# Altium integrated library RC-XD(TX).IntLib: 26 symbols
Pins are listed as number, name and electrical type; pins without a type are passive.

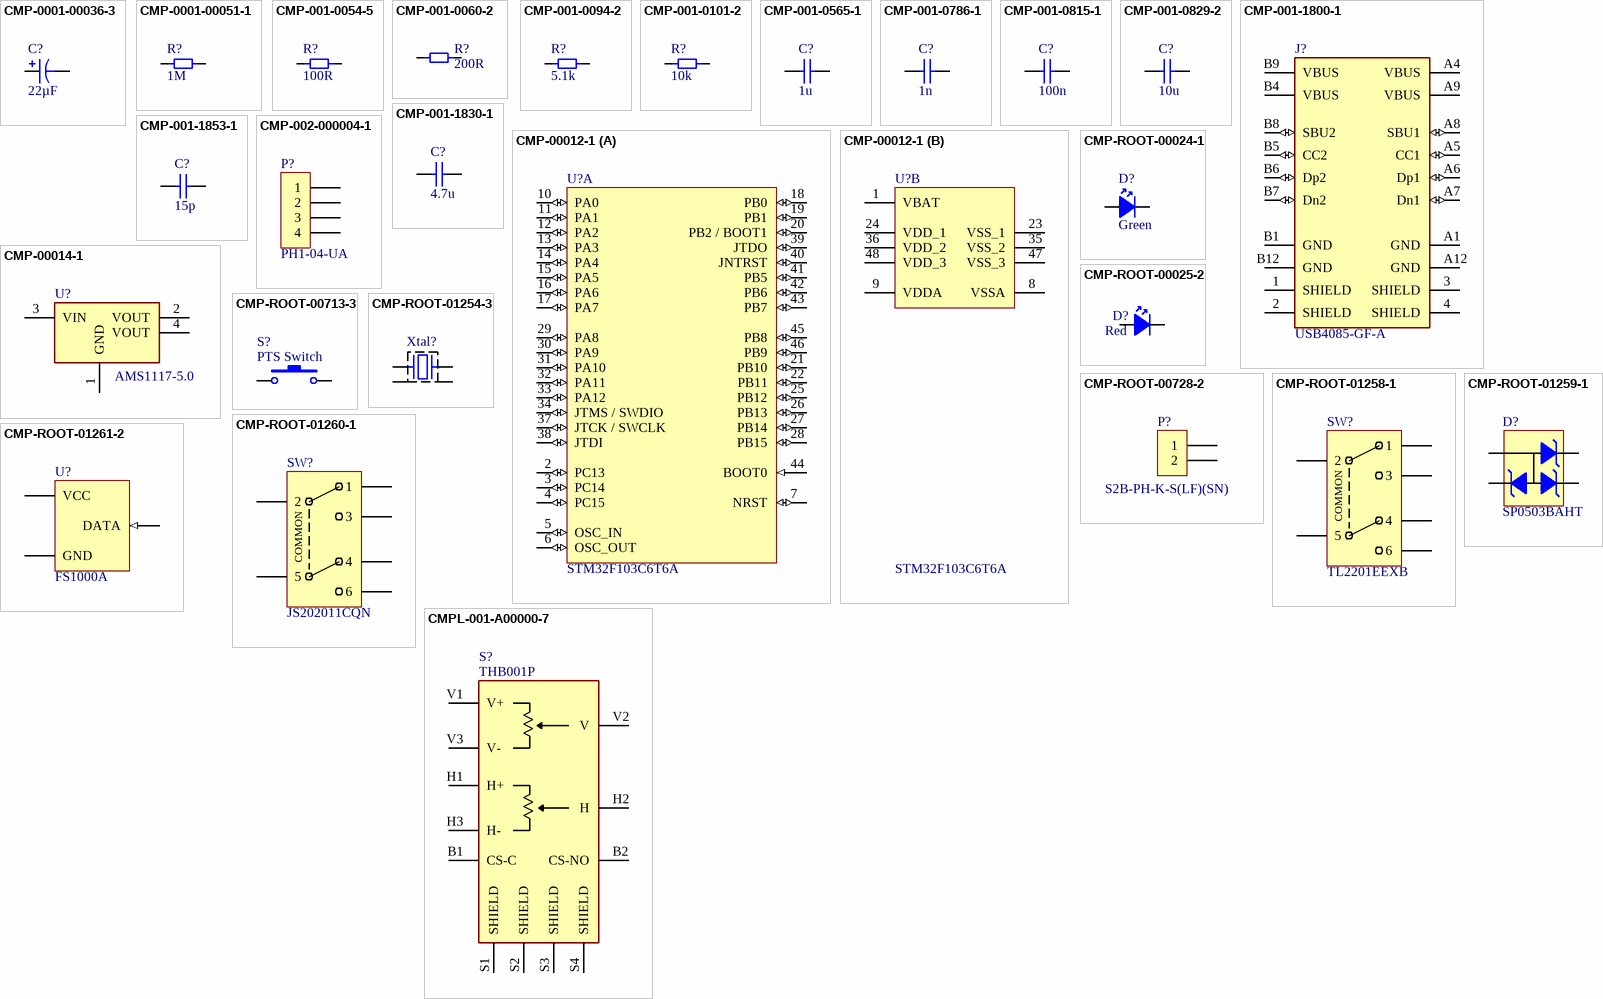
[diagram p0: symbols CMP-0001-00036-3 to CMPL-001-A00000-7]

## CMP-0001-00036-3
designator C?, comment value 22µF  (hidden comment: TCJB226M025R0150)
Cap Tant Solid 22uF 25V B CASE 20% (3.5 X 2.8 X 1.9mm) SMD 3528-21 0.15 Ohm 105°C T/R; Manufacturer: AVX Corporation; Life (Hours): 2000Hour; Capacitor Type: Molded; Dielectric: X5R; ESR (Equivalent Series Resistance): 150mR; Tolerance: 20%; Capacitance: 22uF; Features: General Purpose; Mount: Surface Mount; Package Quantity: 2000; Radiation Hardening: No; Termination: SMD/SMT; Length: 0.138inch; Height: 1.9mm; Height - Seated (Max): 0.083inch; Depth: 2.8mm; Voltage Rating: 25V; Part number: TCJB226M025R0150; Case Code (Imperial): 1210; Width: 0.11inch; Packaging: Tape and Reel; Max Operating Temperature: 105°C; Voltage Rating (DC): 25V; Min Operating Temperature: -55°C; Case Code (Metric): 3528; REACH SVHC: No SVHC; RoHS: Yes; Case/Package: 1210; Component Type: Capacitor
footprint 1210_Tantalum (Chip Capacitor, 2-Leads, Body 3,20x2,50mm, IPC Medium Density)
pins: 1, 2

## CMP-0001-00051-1
designator R?, comment 1M
Resistor, 1206, 1M, 1%, 1/4W; Manufacturer: Any; Case/Package: 1206; RoHS: Yes; Value: 1M; Mount: SMD; Part number: Any; Component Type: Resistor
footprint Resistor_1206_M
pins: 1, 2

## CMP-001-0054-5
designator R?, comment 100R
Resistor, 0603, 100R, 1%, 1/10W; Manufacturer: Any; Value: 100; Power: 100mW; Case/Package: 0603; Mount: SMD; Part number: Resistor, 0603, 100R, 1%, 1/10W; Tolerance: 1%; RoHS: Yes; Component Type: Resistor
footprint Resistor_0603_M
pins: 1, 2

## CMP-001-0060-2
designator R?, comment 200R
Resistor, 0603, 200R, 1%, 1/10W; Manufacturer: Any; Value: 200; Power: 100mW; RoHS: Yes; Part number: Resistor, 0603, 200R, 1%, 1/10W; Mount: SMD; Tolerance: 1%; Case/Package: 0603; Component Type: Resistor
footprint Resistor_0603_M
pins: 1, 2

## CMP-001-0094-2
designator R?, comment 5.1k
Resistor, 0603, 5.1k, 1%, 1/10W; Manufacturer: Any; Power: 100mW; Value: 5,1k; Case/Package: 0603; Part number: Resistor, 0603, 5.1k, 1%, 1/10W; Mount: SMD; Tolerance: 1%; RoHS: Yes; Component Type: Resistor
footprint Resistor_0603_M
pins: 1, 2

## CMP-001-0101-2
designator R?, comment 10k
Resistor, 0603, 10k, 1%, 1/10W; Manufacturer: Any; Power: 100mW; Tolerance: 1%; Value: 10k; RoHS: Yes; Mount: SMD; Case/Package: 0603; Part number: Resistor, 0603, 10k, 1%, 1/10W; Component Type: Resistor
footprint Resistor_0603_M
pins: 1, 2

## CMP-001-0565-1
designator C?, comment 1u
MLCC, 0603, 1u, 10%, 50V, X5R; Manufacturer: Any; Capacitor Type: Ceramic; Value: 1µF; Part number: MLCC, 0603, 1u, 10%, 50V, X5R; Dielectric: X5R; Voltage: 50V; RoHS: Yes; Tolerance: 10%; Mount: SMD; Case/Package: 0603; Component Type: Capacitor
footprint MLCC_0603_M
pins: 1, 2

## CMP-001-0786-1
designator C?, comment 1n
MLCC, 0603, 1n, 10%, 50V, X7R; Manufacturer: Any; Value: 1nF; Capacitor Type: Ceramic; RoHS: Yes; Mount: SMD; Dielectric: X7R; Case/Package: 0603; Part number: MLCC, 0603, 1n, 10%, 50V, X7R; Voltage: 50V; Tolerance: 10%; Component Type: Capacitor
footprint MLCC_0603_M
pins: 1, 2

## CMP-001-0815-1
designator C?, comment 100n
MLCC, 0603, 100n, 10%, 50V, X7R; Manufacturer: Any; Value: 100nF; Capacitor Type: Ceramic; Part number: MLCC, 0603, 100n, 10%, 50V, X7R; RoHS: Yes; Dielectric: X7R; Mount: SMD; Voltage: 50V; Tolerance: 10%; Case/Package: 0603; Component Type: Capacitor
footprint MLCC_0603_M
pins: 1, 2

## CMP-001-0829-2
designator C?, comment 10u
MLCC, 0805, 10u, 10%, 50V, X5R; Manufacturer: Any; Value: 10µF; Capacitor Type: Ceramic; RoHS: Yes; Tolerance: 10%; Voltage: 50V; Mount: SMD; Case/Package: 0805; Part number: MLCC, 0805, 10u, 10%, 50V, X5R; Dielectric: X5R; Component Type: Capacitor
footprint MLCC_0805_M (Chip Capacitor, 2-Leads, Body 2,00x1,25mm, IPC Medium Density)
pins: 1, 2

## CMP-001-1800-1
designator J?, comment USB4085-GF-A
USB Connector, 16 Contact(s), Female, Right Angle, Solder Terminal, Locking, Receptacle; Manufacturer: GCT; Part number: USB4800-03-A; USB Standard: USB 2.0; Standoff Height: 3.5mm; USB PD: 3.2; Current Rating: 4.25A; Mating Cycles: 10000; Number of Contacts: 16; Number of Ports: 1; Shielding: Shielded; Voltage Rating: 20V; RoHS: Yes; Pins: 16; Mount: TH; Connector Type: USB; Contact Material: Copper Alloy; Contact Plating: Gold; Flammability Rating: UL94 V-0; Gender: Receptacle; Height: 3.66mm; Insulation Color: Black; Max Operating Temperature: 85°C; Min Operating Temperature: -40°C; Mounting Technology: Through Hole,Horizontal; Number of Positions: 16; Orientation: Right Angle; Packaging: Tape and Reel; Series: USB4085; Termination: Solder; Component Type: Connector
footprint FP-USB4085-GF-A-MFG
pins: 1 SHIELD, 2 SHIELD, 3 SHIELD, 4 SHIELD, A1 GND (power), A4 VBUS (power), A5 CC1 (io), A6 Dp1 (io), A7 Dn1 (io), A8 SBU1 (io), A9 VBUS (power), A12 GND (power), B1 GND (power), B4 VBUS (power), B5 CC2 (io), B6 Dp2 (io), B7 Dn2 (io), B8 SBU2 (io), B9 VBUS (power), B12 GND (power)

## CMP-001-1830-1
designator C?, comment 4.7u
MLCC, 0805, 4.7u, 20%, 50V, X5R; Manufacturer: Any; Capacitor Type: Ceramic; Value: 4.7µF; Mount: SMD; Case/Package: 0805; Dielectric: X5R; RoHS: Yes; Part number: MLCC, 0805, 4.7u, 20%, 50V, X5R; Voltage: 50V; Tolerance: 20%; Component Type: Capacitor
footprint MLCC_0805_M (Chip Capacitor, 2-Leads, Body 2,00x1,25mm, IPC Medium Density)
pins: 1, 2

## CMP-001-1853-1
designator C?, comment 15p
MLCC, 0402, 15p, 10%, 25V, C0G/NP0; Manufacturer: Any; Capacitor Type: Ceramic; Voltage Rating: 25; Value: 15pF; Dielectric: C0G; Temperature Coefficient: 300ppm/°C; Height: 0.5mm; Width: 0.02inch; Contact Plating: Tin; Package Quantity: 1; Case/Package: 0402; Depth: 0.5mm; Material: Ceramic; Packaging: Tape and Reel; Radiation Hardening: No; Case Code (Imperial): 0402; Min Operating Temperature: -55°C; Mount: Surface Mount; RoHS: Yes; Length: 1mm; Thickness: 0.022inch; Part number: MLCC, 0402, 15p, 10%, 25V, C0G/NP0; Capacitance: 15pF; Tolerance: 10%; Case Code (Metric): 1005; Voltage: 25V; Max Operating Temperature: 125°C; Component Type: Capacitor
footprint MLCC_0402_M
pins: 1, 2

## CMP-002-000004-1
designator P?, comment PH1-04-UA
4 POS 2.54mm Vertical THT Header; Manufacturer: Adam Tech; Number of Positions: 4; Pins: 4; RoHS: Yes; Part number: PH1-04-UA; Mount: TH; Lead Free: Lead Free; Pitch: 2.54mm; Termination: Through Hole; Component Type: Connector
footprint 4Pos Pin Header Vertical
pins: 1, 2, 3, 4

## CMP-00012-1
designator U?, comment STM32F103C6T6A
MCU 32-bit STM32F ARM Cortex M3 RISC 32KB Flash 2.5V/3.3V 48-Pin LQFP Tray; Manufacturer: STMicroelectronics; Part number: STM32F103C8T6; Address Bus Width: 32b; Frequency: 72MHz; Interface: CAN, I2C, IrDA, LIN, SPI, UART, USART, USB; Clock Frequency: 16MHz; Max Power Dissipation: 363mW; Max Supply Current: 45mA; Max Supply Voltage: 3.6V; Min Supply Voltage: 2V; Nominal Supply Current: 1.55µA; Number of A/D Converters: 2; Number of ADC Channels: 10; Number of I/Os: 37; Number of I2C Channels: 1; Number of Timers/Counters: 3; Operating Supply Voltage: 3.3V; Oscillator Type: Internal; Peripherals: DMA, I2C, POR, PWM, Temp Sensor, WDT; RAM Size: 10kB; Watchdog Timer: Yes; Case/Package: LQFP; China RoHS: Compliant; Core Architecture: ARM; Data Bus Width: 32b; Flash Memory Size: 32kB; Height: 1.45mm; Lead Free: Lead Free; Length: 7mm; Lifecycle Status: Production; Max Operating Temperature: 85°C; Memory Size: 32kB; Memory Format: FLASH; Min Operating Temperature: -40°C; Number of Channels: 10; Pins: 48; Number of Programmable I/O: 37; Number of SPI Channels: 1; Number of Terminals: 48; Number of USART Channels: 2; REACH SVHC: Yes; Radiation Hardening: No; RoHS: Compliant; Schedule B: 8542310000; Terminal Pitch: 500µm; Width: 7mm; Mount: SMD; Component Type: Processor
footprint STM-LQFP48_M (QFP, 48-Leads, Body 7x7mm, Pitch 0.5mm, IPC Low Density)
part A pins: 2 PC13 (io) "PC13-TAMPER-RTC/PC13/TAMPER-RTC", 3 PC14 (io) "PC14-OSC32_IN/PC14/OSC32_IN", 4 PC15 (io) "PC15-OSC32_OUT/PC15/OSC32_OUT", 5 OSC_IN (io) "PD0/OSC_IN", 6 OSC_OUT (io) "PD1/OSC_OUT", 7 NRST (io), 10 PA0 (io) "PA0-WKUP/PA0/WKUP/USART2_CTS/ADC12_IN0/TIM2_CH1_ETR", 11 PA1 (io) "PA1/USART2_RTS/ADC12_IN1/TIM2_CH2", 12 PA2 (io) "PA2/USART2_TX/ADC12_IN2/TIM2_CH3", 13 PA3 (io) "PA3/USART2_RX/ADC12_IN3/TIM2_CH4", 14 PA4 (io) "PA4/SPI1_NSS/USART2_CK/ADC12_IN4", 15 PA5 (io) "PA5/SPI1_SCK/ADC12_IN5", 16 PA6 (io) "PA6/SPI1_MISO/ADC12_IN6/TIM3_CH1/TIM1_BKIN", 17 PA7 (io) "PA7/SPI1_MOSI/ADC12_IN7/TIM3_CH2/TIM1_CH1N", 18 PB0 (io) "PB0/ADC12_IN8/TIM3_CH3/TIM1_CH2N", 19 PB1 (io) "PB1/ADC12_IN9/TIM3_CH4/TIM1_CH3N", 20 PB2 / BOOT1 (io) "PB2/BOOT1", 21 PB10 (io) "PB10/TIM2_CH3", 22 PB11 (io) "PB11/TIM2_CH4", 25 PB12 (io) "PB12/TIM1_BKIN", 26 PB13 (io) "PB13/TIM1_CH1N", 27 PB14 (io) "PB14/TIM1_CH2N", 28 PB15 (io) "PB15/TIM1_CH3N", 29 PA8 (io) "PA8/USART1_CK/TIM1_CH1/MCO", 30 PA9 (io) "PA9/USART1_TX/TIM1_CH2", 31 PA10 (io) "PA10/USART1_RX/TIM1_CH3", 32 PA11 (io) "PA11/USART1_CTS/CAN_RX/TIM1_CH4/USBDM", 33 PA12 (io) "PA12/USART1_RTS/CAN_TX/TIM1_ETR/USBDP", 34 JTMS / SWDIO (io) "PA13/JTMS/SWDIO", 37 JTCK / SWCLK (io) "PA14/JTCK/SWCLK", 38 JTDI (io) "PA15/JTDI/TIM2_CH1_ETR/SPI1_NSS", 39 JTDO (io) "PB3/JTDO/TIM2_CH2/TRACESWO/SPI1_SCK", 40 JNTRST (io) "PB4/NJTRST/TIM3_CH1/SPI1_MISO", 41 PB5 (io) "PB5/I2C1_SMBA/TIM3_CH2/SPI1_MOSI", 42 PB6 (io) "PB6/I2C1_SCL/USART1_TX", 43 PB7 (io) "PB7/I2C1_SDA/USART1_RX", 44 BOOT0 (in), 45 PB8 (io) "PB8/I2C1_SCL/CAN_RX", 46 PB9 (io) "PB9/I2C1_SDA/CAN_TX"
part B pins: 1 VBAT (power), 8 VSSA (power), 9 VDDA (power), 23 VSS_1 (power), 24 VDD_1 (power), 35 VSS_2 (power), 36 VDD_2 (power), 47 VSS_3 (power), 48 VDD_3 (power)

## CMP-00014-1
designator U?, comment AMS1117-5.0
LDO Regulator Pos 5V 1A 4-Pin(3+Tab) SOT-223 / 1A LOW DROPOUT VOLTAGE REGULATOR; Manufacturer: EVVO; Output type: Fixed; Voltage Input (Max): 12V; Voltage Dropout (Max): 1.3V @ 1A; REACH SVHC: Yes; RoHS: Compliant; Case/Package: SOT-223; Mount: SMD; Part number: AMS1117-5.0; Voltage Output (Mix/Fixed): 5V; Current Output: 1A; Component Type: Power Supply
footprint SOT230P700X180-4N (SOT-223 based on AP2114H-3.3TRG1)
pins: 1 GND (power), 2 VOUT, 3 VIN (power), 4 VOUT

## CMP-ROOT-00024-1
designator D?, comment Green
Generic green 0603 LED; Part number: Any Green 0603 LED; Manufacturer: Any; RoHS: Yes; Mount: SMD; Color: Green; Case/Package: 0603; Component Type: Diode
footprint 0603 LED (Generic 0603 LED)
pins: 1 C, 2 A

## CMP-ROOT-00025-2
designator D?, comment Red
Generic red 0603 LED; Part number: Any Red 0603 LED; Manufacturer: Any; Color: Red; Case/Package: 0603; Mount: SMD; RoHS: Yes; Component Type: Diode
footprint 0603 RED LED (Generic 0603 RED LED)
pins: 1 C, 2 A

## CMP-ROOT-00713-3
designator S?, comment PTS Switch
Switch Tactile N.O. SPST Round Button Gull Wing 0.05A 12VDC 100000Cycles 1.57N SMD T/R; Part number: PTS645SM50SMTR92LFS; Manufacturer: C&K; Max Voltage Rating (DC): 12V; Current Rating: 50mA; Actuator Material: Nylon,Polyamide,PA66; Illumination Type: Non-Illuminated; Operating Force: 160gf; Actuator Type: Standard; Switch Function: Off-Mom; Contact Material: Bronze; Depth: 9mm; Series: PTS645; Mechanical Life: 100000Cycles; Termination: Gull Wing; RoHS: Yes; Throw Configuration: SPST; Max Operating Temperature: 60°C; Max Current Rating: 50mA; Length: 6mm; Case/Package: SMD/SMT; Mount: Surface Mount; RoHS Compliant: Yes; Orientation: Straight; Color: Black; Contact Plating: Silver; Voltage Rating (DC): 12V; Min Operating Temperature: -20°C; Package Quantity: 1000; Packaging: Tape and Reel; Component Type: Switch
footprint PTS815 SJM 250 SMTR LFS (Tactile Switch SPST-NO Top Actuated Surface Mount)
pins: 1, 2, 3, 4

## CMP-ROOT-00728-2
designator P?, comment S2B-PH-K-S(LF)(SN)
Conn Shrouded Header (4 Sides) HDR 2 POS 2mm Solder RA Thru-Hole Box; Manufacturer: JST Sales America Inc.; Number of Contacts: 2; Voltage Rating: 100V; Contact Resistance: 20mR; Current Rating: 2A; Insulation Resistance: 1GR; Gender: Male; Connector Type: Male Pin; Min Operating Temperature: -25°C; Part number: S2B-PH-K-S(LF)(SN); Packaging: Bulk; REACH SVHC: No SVHC; Number of Pins: 2; Lead Pitch: 2mm; Height: 9.4mm; Contact Mating Length: 0.13inch; Series: PH; Pitch: 2mm; Fastening Type: Detent; Voltage Rating (AC): 100V; Contact Material: Tin,Brass,Bronze; Max Voltage Rating (AC): 100V; Number of Rows: 1; Flammability Rating: UL94 V-0; Housing Color: White; Depth: 7.6mm; Contact Type: Male Pin; Width: 4.5mm; Working Voltage: 100V; Max Voltage Rating (DC): 100V; Max Operating Temperature: 85°C; RoHS: Yes; Termination: Solder; Contact Plating: Tin,Copper; Lead Free: Lead Free; Number of Poles: 2; Length: 5.9mm; Housing Material: Polyamide; Number of Positions: 2; Mount: Through Hole; Orientation: Right Angle; Max Current Rating: 2A; Color: Natural,White; Component Type: Connector
footprint B5B-PH-K-S(LF)(SN)
pins: 1, 2

## CMP-ROOT-01254-3
designator Xtal?, comment ABM11-16.000MHZ-12-N1G-T  (value not drawn)
Crystal 16MHz ±10ppm (Tol) ±15ppm (Stability) 12pF FUND 150Ohm 4-Pin Ultra Mini-CSMD T/R; Manufacturer: Abracon LLC; ESR (Equivalent Series Resistance): 150Ω; Frequency Tolerance: 0.001%; Case/Package: 4-SMD, No Lead; Mount: SMD; RoHS: Compliant; China RoHS: Compliant; Frequency: 16MHz; Frequency Stability: 15ppm; Height: 590µm; Length: 2mm; Lifecycle Status: Production; Load Capacitance: 12pF; Max Operating Temperature: 85°C; Min Operating Temperature: -30°C; Mounting Technology: Surface Mount; REACH SVHC: Yes; Schedule B: 8541600080; ESR: 150Ω; Tolerance: 0.001%; Width: 1.6mm; Component Type: Crystal & Oscillator
footprint FP-ABM11-MFG
pins: 1, 2 (power), 3, 4 (power)

## CMP-ROOT-01258-1
designator SW?, comment TL2201EEXB
Pushbutton Switch, DPDT, ON-ON, 100 mA, 30V DC, PC Pin, TL2201 Series; Manufacturer: E-Switch; Actuator Length: 5.5118mm; Actuator Material: Acetal; Contact Resistance: 100mΩ; Current Rating: 100mA; Electrical Life: 10kcycles; Number of Positions: 2; Case/Package: Non-standard; Mount: TH; Part number: TL2201EEXB; Pins: 6; RoHS: Compliant; Contact Plating: Silver; Height: 8.509mm; Insulation Resistance: 100MΩ; Length: 8.509mm; Lifecycle Status: Production; Max Current Rating: 100mA; Max Voltage Rating (DC): 30V; Mounting Technology: Through Hole; REACH SVHC: Yes; Switch Function: On-On; Termination: PC Pin; Throw Configuration: DPDT; Voltage Rating (DC): 30V; Component Type: Switch
footprint TL2201EEXB-Footprint-1
pins: 1, 2, 3, 4, 5, 6
text: COMMON

## CMP-ROOT-01259-1
designator D?, comment SP0503BAHT
SP050xBA Series 8.5 V 30 pF Triple Uni-Directional TVS Avalanche Diode-SOT143-4; Manufacturer: Littelfuse Inc.; Breakdown Voltage: 5.5V; Value: 30pF; Clamping Voltage: 6.8V; Direction: Unidirectional; ESD Protection: Yes; Element Configuration: Common Anode; Leakage Current: 100nA; Max Power Dissipation: 225mW; Number of Channels: 3; Power Line Protection: No; Voltage Rating (DC): 5V; Case/Package: SOT-143; Mount: SMD; Part number: SP0503BAHT; Pins: 4; RoHS: Compliant; China RoHS: Compliant; Composition: Zener; Depth: 1.4mm; Diode Type: Avalanche; Height: 1.22mm; Lead Free: Lead Free; Length: 3.04mm; Lifecycle Status: Production; Max Operating Temperature: 125°C; Max Reverse Leakage Current: 100nA; Min Operating Temperature: -40°C; Mounting Technology: Surface Mount; Number of Elements: 3; Number of Terminals: 4; Number of Unidirectional Channels: 3; Operating Supply Voltage: 5.5V; Peak Pulse Power: 225mW; Polarity: Unidirectional; Power Dissipation: 225mW; REACH SVHC: Yes; Radiation Hardening: No; Reverse Standoff Voltage: 5.5V; Schedule B: 8536300000, 8536300000; Termination: SMD/SMT; Width: 1.4mm; Working Voltage: 5.5V; Component Type: Diode
footprint LFUS-SOT143-4_V (SOT143, 4-Leads, Body 3.04x1.4mm, Pitch 1.90mm)
pins: 1 A, 2 C, 3 C, 4 C

## CMP-ROOT-01260-1
designator SW?, comment JS202011CQN
Slide Switch, 1 Positions, Dpdt, Latched, 0.3A, 6Vdc, 6 Pcb Hole Cnt, Solder Terminal, Through; Manufacturer: C&K; Actuator Length: 2.0066mm; Actuator Material: Nylon; Contact Current Rating: 300mA; Contact Resistance: 70mΩ; Electrical Life: 5kcycles; Illumination Type: Non-Illuminated; Insulation Resistance: 100MΩ; Max Voltage Rating (DC): 6V; Number of Positions: 1; Switch Function: On-On; Switch Travel: 2mm; Case/Package: Non-standard; Mount: SMD; Part number: JS202011CQN; Pins: 6; RoHS: Compliant; Color: Black; Contact Plating: Silver; Current Rating: 300mA; Depth: 3.6mm; Flammability Rating: UL94 V-0; Height: 3.5mm; Housing Material: Nylon; Lead Free: Lead Free; Length: 9mm; Life (Cycles): 5kcycles; Lifecycle Status: Production; Max Current Rating: 300mA; Max Operating Temperature: 85°C; Min Operating Temperature: -40°C; Mounting Technology: Through Hole; Orientation: Vertical; Packaging: Bulk; REACH SVHC: Yes; Radiation Hardening: No; Terminal Material: Brass; Termination: PC Pins; Throw Configuration: DPDT; Voltage Rating (DC): 6V; Component Type: Switch
footprint FP-JS202011CQN-MFG
pins: 1, 2, 3, 4, 5, 6
text: COMMON

## CMP-ROOT-01261-2
designator U?, comment FS1000A
FS1000A 433MHZ RF transmitter & XY-MK-5V Receiver Module; Case/Package: Non-standard; Manufacturer: -; Mount: SMD; Part number: FS1000A; Pins: 3; RoHS: Yes; Component Type: IC
footprint 2.54mm 3-pin horizontal
pins: 1 GND (power), 2 VCC (power), 3 DATA (in)

## CMPL-001-A00000-7
designator S?, comment THB001P
Multi-Directional Thumbstick, 2 Axis, Center Momentary Switch, 12VDC, THB Series; Manufacturer: Littelfuse; Value: 10kR; Actuator Type: Joystick; Operating Force: 715gf; Voltage Rating (DC): 12V; Package: None; Price: None; Mount: TH; Part number: THB001P; Pins: 12; RoHS: Yes; Max Operating Temperature: 70°C; Min Operating Temperature: -10°C; Mounting Technology: Through Hole; Termination: PC Pin; Component Type: Connector
footprint THB001P; pin to pad B1>B1A+B1B B2>B2A+B2B
pins: B1 CS-C, B2 CS-NO, H1 H+, H2 H, H3 H-, S1 SHIELD, S2 SHIELD, S3 SHIELD, S4 SHIELD, V1 V+, V2 V, V3 V-